# Altium footprint library OpticalFlowExt.PcbLib: 4 footprints
Each footprint in its own frame and in the unit in brackets; x right, y up, seen from the top. Pads: shape width x height; smd on the part's side, far side on the other; paste and mask are expansions set on the pad; w line width, h text height; cw(c..) or ccw(c..) is an arc to the next point about the centre after c.
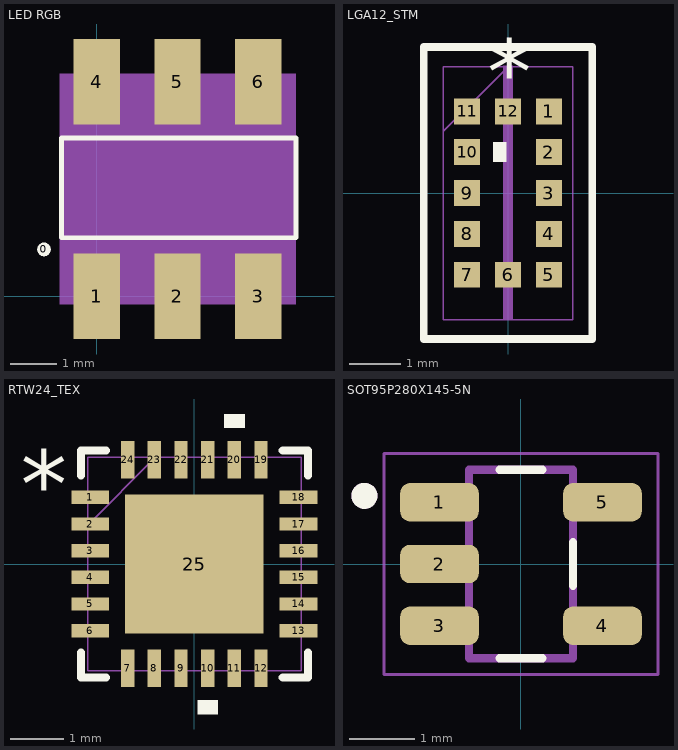
[diagram p0: the footprints below, top view; thin cyan lines are the x and y axes]

## LED RGB [mm]
pads (7):
  round 0.3 on Top Overlay: 0(-1.143,1.016)
  rect 1x1.85 smd: 1(0,0) 2(1.75,0) 3(3.5,0) 4(0,4.65) 5(1.75,4.65) 6(3.5,4.65)
Top Overlay:
  lines w0.1: -0.762,1.27 -0.762,3.429 4.318,3.429 4.318,1.27 -0.762,1.27
Mechanical 13:
  rectangle: -0.809,-0.174 4.318,4.826
3D body "LED1.STEP": height 1.81, standoff 0.01, extent -0.77,-0.3 4.23,5.2

## LGA12_STM [mil]
pads (12):
  rect 20x20 smd paste-10 mask+0: 1(31.5,62.99) 2(31.5,31.5) 3(31.5,0) 4(31.5,-31.5) 5(31.5,-62.99) 6(0,-62.99) 7(-31.5,-62.99) 8(-31.5,-31.5) 9(-31.5,0) 10(-31.5,31.5) 11(-31.5,62.99) 12(0,62.99)
Top Overlay:
  region: -11.49,39 -1.5,39 -1.5,24 -11.49,24
  lines w6: -65,-112.5 65,-112.5 65,112.5 -65,112.5 -65,-112.5
  text "*" at -16,68.74 h50
Mechanical 5:
  region: 3.5,-97.99 -3.5,-97.99 -3.5,97.99 3.5,97.99
Mechanical 13:
  lines w1: -50,47.5 0,97.5 ; -50,-97.5 50,-97.5 50,97.5 -50,97.5 -50,-97.5
  text "*" at 38.99,53.74 h50
3D body "LGA12_STM.step": height 41.1, standoff 0, extent -52,-99.48 52.01,99.49
3D body: height 10, standoff 0, extent 0,0 10,10

## RTW24_TEX [mm]
pads (25):
  rect 0.705x0.25 smd paste+0 mask+0: 1(-1.952,1.25) 2(-1.952,0.75) 3(-1.952,0.25) 4(-1.952,-0.25) 5(-1.952,-0.75) 6(-1.952,-1.25) 13(1.952,-1.25) 14(1.952,-0.75) 15(1.952,-0.25) 16(1.952,0.25) 17(1.952,0.75) 18(1.952,1.25)
  rect 0.25x0.705 smd paste+0 mask+0: 7(-1.25,-1.952) 8(-0.75,-1.952) 9(-0.25,-1.952) 10(0.25,-1.952) 11(0.75,-1.952) 12(1.25,-1.952) 19(1.25,1.952) 20(0.75,1.952) 21(0.25,1.952) 22(-0.25,1.952) 23(-0.75,1.952) 24(-1.25,1.952)
  rect 2.6x2.6 smd paste-1.287 mask+0: 25(0,0)
Top Overlay:
  region: 0.44,-2.559 0.059,-2.559 0.059,-2.813 0.44,-2.813
  region: 0.941,2.559 0.56,2.559 0.56,2.813 0.941,2.813
  lines w0.152: -2.127,-1.657 -2.127,-2.127 -1.657,-2.127 ; -2.127,1.657 -2.127,2.127 -1.657,2.127 ; 1.657,-2.127 2.127,-2.127 2.127,-1.657 ; 1.657,2.127 2.127,2.127 2.127,1.657
  text "*" at -3.257,0.865 h1.27
Top Paste:
  region: -0.1,1.2 -1.2,1.2 -1.2,0.1 -0.1,0.1
  region: -0.1,-0.1 -1.2,-0.1 -1.2,-1.2 -0.1,-1.2
  region: 1.2,1.2 0.1,1.2 0.1,0.1 1.2,0.1
  region: 1.2,-0.1 0.1,-0.1 0.1,-1.2 1.2,-1.2
Mechanical 13:
  lines w0.025: -2,0.73 -0.73,2 ; -2,-2 2,-2 2,2 -2,2 -2,-2 ; -2,-1.375 -2,-1.125 -2,-1.375 ; -2,-0.875 -2,-0.625 -2,-0.875 ; -2,-0.375 -2,-0.125 -2,-0.375 ; -2,0.125 -2,0.375 -2,0.125 ; -2,0.625 -2,0.875 -2,0.625 ; -2,1.125 -2,1.375 -2,1.125 ; -1.375,-2 -1.125,-2 -1.375,-2 ; -1.375,2 -1.125,2 -1.375,2 ; -0.875,-2 -0.625,-2 -0.875,-2 ; -0.875,2 -0.625,2 -0.875,2 ; -0.375,-2 -0.125,-2 -0.375,-2 ; -0.375,2 -0.125,2 -0.375,2 ; 0.125,-2 0.375,-2 0.125,-2 ; 0.125,2 0.375,2 0.125,2 ; 0.625,-2 0.875,-2 0.625,-2 ; 0.625,2 0.875,2 0.625,2 ; 1.125,-2 1.375,-2 1.125,-2 ; 1.125,2 1.375,2 1.125,2 ; 2,-1.375 2,-1.125 2,-1.375 ; 2,-0.875 2,-0.625 2,-0.875 ; 2,-0.375 2,-0.125 2,-0.375 ; 2,0.125 2,0.375 2,0.125 ; 2,0.625 2,0.875 2,0.625 ; 2,1.125 2,1.375 2,1.125
  text "*" at -1.917,0.865 h1.27
3D body "RTW24_TEX.step": height 1.4, standoff 0, extent -1.873,-1.908 2.127,2.092
3D body: height 0.25, standoff 0, extent 0,0 0.254,0.254

## SOT95P280X145-5N [mm]
pads (5):
  rrect50% 1.21x0.59 smd: 1(-1.255,0.95) 2(-1.255,0) 3(-1.255,-0.95) 4(1.255,-0.95) 5(1.255,0.95)
Top Overlay:
  circle w0.2: c-2.41,1.05 r0.1
  lines w0.127: -0.33,-1.45 0.33,-1.45 ; -0.33,1.45 0.33,1.45 ; 0.8,-0.335 0.8,0.335
Mechanical 13:
  circle w0.2: c-2.41,1.05 r0.1
  lines w0.127: -0.8,-1.45 0.8,-1.45 0.8,1.45 -0.8,1.45 -0.8,-1.45
Mechanical 15:
  lines w0.05: -2.11,-1.7 -2.11,1.7 2.11,1.7 2.11,-1.7 -2.11,-1.7
3D body "TPS73225DBVR--3DModel-STEP-56544.STEP": height 1.44, standoff -0.01, extent -1.4,-1.45 1.4,1.45